# EAGLE library part YOST (library uORocketry-parts)
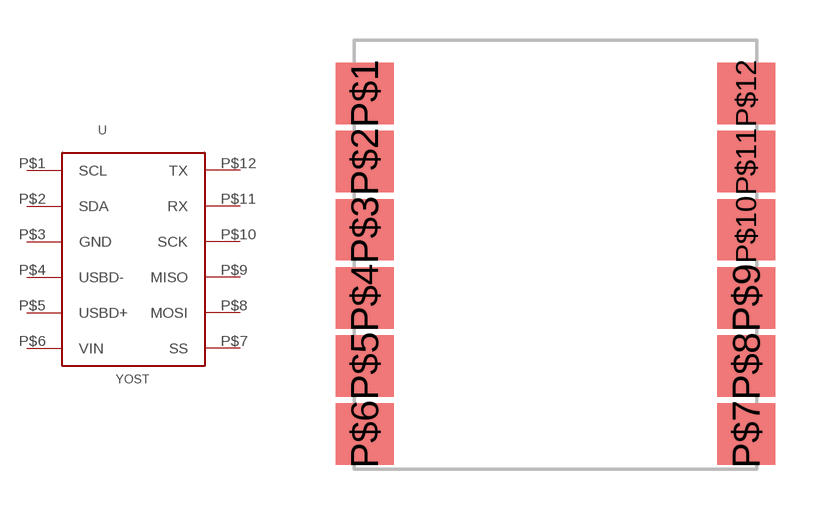
[diagram p4: symbol with the pads of YOST; footprint YOST]

Designator prefix -

## YOST  [YOST]
P$1  SCL
P$2  SDA
P$3  GND
P$4  USBD-
P$5  USBD+
P$6  VIN
P$7  SS
P$8  MOSI
P$9  MISO
P$10  SCK
P$11  RX
P$12  TX

## Footprint YOST (pad centres in mm)
smd 2.159 x 2.286: P$1 -7.112,6.017; P$2 -7.112,3.477; P$3 -7.112,0.937; P$4 -7.112,-1.603; P$5 -7.112,-4.143; P$6 -7.112,-6.683; P$7 7.112,-6.683; P$8 7.112,-4.143; P$9 7.112,-1.603; P$10 7.112,0.937; P$11 7.112,3.477; P$12 7.112,6.017